# Altium footprint library Button_Switch_THT.PcbLib: 98 footprints (part 2 of 7)
Each footprint in its own frame and in the unit in brackets; x right, y up, seen from the top. Pads: shape width x height; smd on the part's side, far side on the other; paste and mask are expansions set on the pad; w line width, h text height; cw(c..) or ccw(c..) is an arc to the next point about the centre after c.
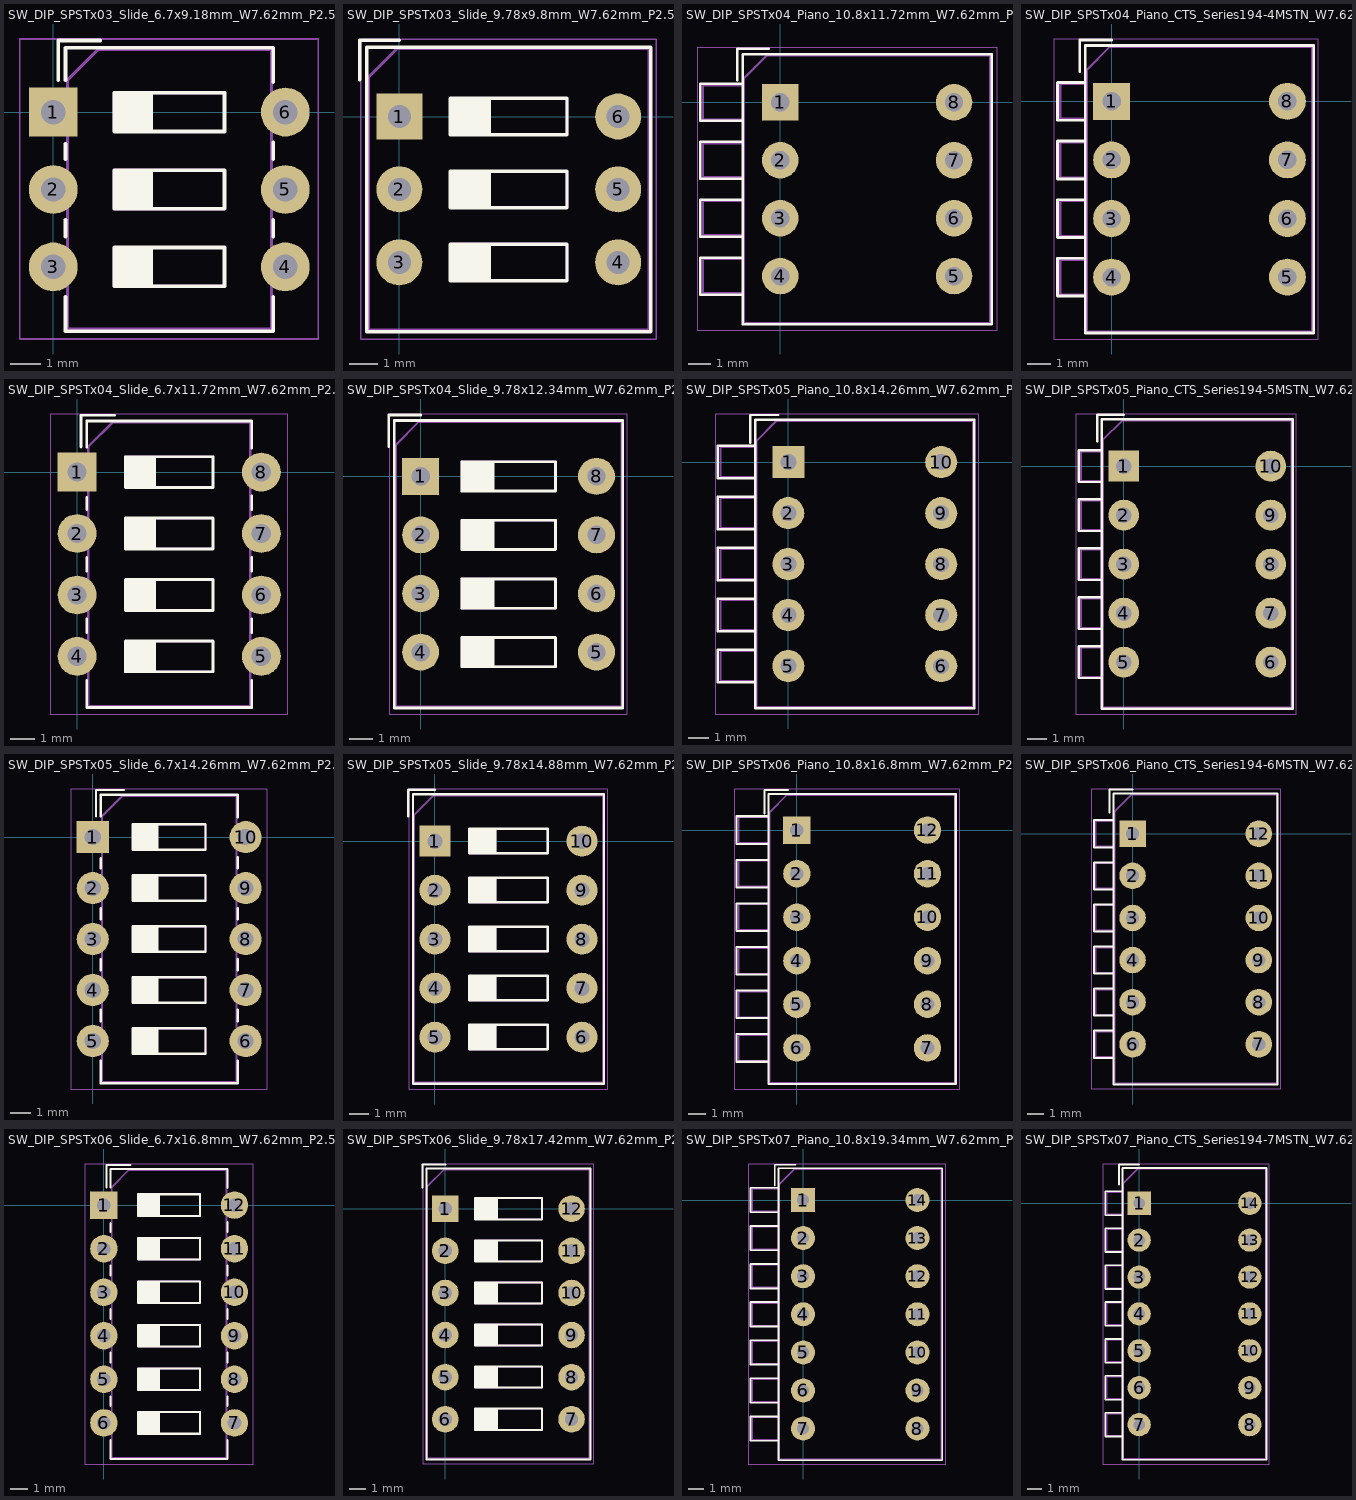
[diagram p1: the footprints below, top view; thin cyan lines are the x and y axes]

## SW_DIP_SPSTx03_Slide_6.7x9.18mm_W7.62mm_P2.54mm_LowProfile [mm]
pads (6):
  rect 1.6x1.6 hole 0.8: 1(0,0)
  rrect100% 1.6x1.6 hole 0.8: 2(0,-2.54) 3(0,-5.08) 4(7.62,-5.08) 5(7.62,-2.54) 6(7.62,0)
F.SilkS:
  lines w0.12: 0.16,1.04 0.16,2.35 1.543,2.35 ; 0.4,-6.07 0.4,-7.19 7.221,-7.19 7.221,-6.07 ; 0.4,-4.091 0.4,-3.53 ; 0.4,-1.551 0.4,-1.04 ; 0.4,1.04 0.4,2.11 7.221,2.11 7.221,0.99 ; 2,-5.645 3.207,-5.645 ; 2,-5.525 3.207,-5.525 ; 2,-5.405 3.207,-5.405 ; 2,-5.285 3.207,-5.285 ; 2,-5.165 3.207,-5.165 ; 2,-5.045 3.207,-5.045 ; 2,-4.925 3.207,-4.925 ; 2,-4.805 3.207,-4.805 ; 2,-4.685 3.207,-4.685 ; 2,-4.565 3.207,-4.565 ; 2,-3.105 3.207,-3.105 ; 2,-2.985 3.207,-2.985 ; 2,-2.865 3.207,-2.865 ; 2,-2.745 3.207,-2.745 ; 2,-2.625 3.207,-2.625 ; 2,-2.505 3.207,-2.505 ; 2,-2.385 3.207,-2.385 ; 2,-2.265 3.207,-2.265 ; 2,-2.145 3.207,-2.145 ; 2,-2.025 3.207,-2.025 ; 2,-0.565 3.207,-0.565 ; 2,-0.445 3.207,-0.445 ; 2,-0.325 3.207,-0.325 ; 2,-0.205 3.207,-0.205 ; 2,-0.085 3.207,-0.085 ; 2,0.035 3.207,0.035 ; 2,0.155 3.207,0.155 ; 2,0.275 3.207,0.275 ; 2,0.395 3.207,0.395 ; 2,0.515 3.207,0.515 ; 3.207,-5.715 3.207,-4.445 ; 3.207,-3.175 3.207,-1.905 ; 3.207,-0.635 3.207,0.635 ; 7.221,-4.091 7.221,-3.53 ; 7.221,-1.551 7.221,-0.99 ; 2,-5.715 5.62,-5.715 5.62,-4.445 2,-4.445 2,-5.715 ; 2,-3.175 5.62,-3.175 5.62,-1.905 2,-1.905 2,-3.175 ; 2,-0.635 5.62,-0.635 5.62,0.635 2,0.635 2,-0.635
F.CrtYd:
  lines w0.05: -1.1,-7.45 8.7,-7.45 8.7,2.4 -1.1,2.4 -1.1,-7.45
F.Fab:
  lines w0.1: 2,-5.645 3.207,-5.645 ; 2,-5.545 3.207,-5.545 ; 2,-5.445 3.207,-5.445 ; 2,-5.345 3.207,-5.345 ; 2,-5.245 3.207,-5.245 ; 2,-5.145 3.207,-5.145 ; 2,-5.045 3.207,-5.045 ; 2,-4.945 3.207,-4.945 ; 2,-4.845 3.207,-4.845 ; 2,-4.745 3.207,-4.745 ; 2,-4.645 3.207,-4.645 ; 2,-4.545 3.207,-4.545 ; 2,-3.105 3.207,-3.105 ; 2,-3.005 3.207,-3.005 ; 2,-2.905 3.207,-2.905 ; 2,-2.805 3.207,-2.805 ; 2,-2.705 3.207,-2.705 ; 2,-2.605 3.207,-2.605 ; 2,-2.505 3.207,-2.505 ; 2,-2.405 3.207,-2.405 ; 2,-2.305 3.207,-2.305 ; 2,-2.205 3.207,-2.205 ; 2,-2.105 3.207,-2.105 ; 2,-2.005 3.207,-2.005 ; 2,-0.565 3.207,-0.565 ; 2,-0.465 3.207,-0.465 ; 2,-0.365 3.207,-0.365 ; 2,-0.265 3.207,-0.265 ; 2,-0.165 3.207,-0.165 ; 2,-0.065 3.207,-0.065 ; 2,0.035 3.207,0.035 ; 2,0.135 3.207,0.135 ; 2,0.235 3.207,0.235 ; 2,0.335 3.207,0.335 ; 2,0.435 3.207,0.435 ; 2,0.535 3.207,0.535 ; 3.207,-5.715 3.207,-4.445 ; 3.207,-3.175 3.207,-1.905 ; 3.207,-0.635 3.207,0.635 ; 0.46,-7.13 0.46,1.05 1.46,2.05 7.16,2.05 7.16,-7.13 0.46,-7.13 ; 2,-5.715 5.62,-5.715 5.62,-4.445 2,-4.445 2,-5.715 ; 2,-3.175 2,-1.905 5.62,-1.905 5.62,-3.175 2,-3.175 ; 2,-0.635 2,0.635 5.62,0.635 5.62,-0.635 2,-0.635
  text "on" at 3.82,0.956 h0.8
  text "'.Designator'" at 7.062,-5.777 h0.8

## SW_DIP_SPSTx03_Slide_9.78x9.8mm_W7.62mm_P2.54mm [mm]
pads (6):
  rect 1.6x1.6 hole 0.8: 1(0,0)
  rrect100% 1.6x1.6 hole 0.8: 2(0,-2.54) 3(0,-5.08) 4(7.62,-5.08) 5(7.62,-2.54) 6(7.62,0)
F.SilkS:
  lines w0.12: -1.38,1.277 -1.38,2.66 0.004,2.66 ; 1.78,-5.645 3.133,-5.645 ; 1.78,-5.525 3.133,-5.525 ; 1.78,-5.405 3.133,-5.405 ; 1.78,-5.285 3.133,-5.285 ; 1.78,-5.165 3.133,-5.165 ; 1.78,-5.045 3.133,-5.045 ; 1.78,-4.925 3.133,-4.925 ; 1.78,-4.805 3.133,-4.805 ; 1.78,-4.685 3.133,-4.685 ; 1.78,-4.565 3.133,-4.565 ; 1.78,-3.105 3.133,-3.105 ; 1.78,-2.985 3.133,-2.985 ; 1.78,-2.865 3.133,-2.865 ; 1.78,-2.745 3.133,-2.745 ; 1.78,-2.625 3.133,-2.625 ; 1.78,-2.505 3.133,-2.505 ; 1.78,-2.385 3.133,-2.385 ; 1.78,-2.265 3.133,-2.265 ; 1.78,-2.145 3.133,-2.145 ; 1.78,-2.025 3.133,-2.025 ; 1.78,-0.565 3.133,-0.565 ; 1.78,-0.445 3.133,-0.445 ; 1.78,-0.325 3.133,-0.325 ; 1.78,-0.205 3.133,-0.205 ; 1.78,-0.085 3.133,-0.085 ; 1.78,0.035 3.133,0.035 ; 1.78,0.155 3.133,0.155 ; 1.78,0.275 3.133,0.275 ; 1.78,0.395 3.133,0.395 ; 1.78,0.515 3.133,0.515 ; 3.133,-5.715 3.133,-4.445 ; 3.133,-3.175 3.133,-1.905 ; 3.133,-0.635 3.133,0.635 ; -1.14,-7.5 -1.14,2.42 8.76,2.42 8.76,-7.5 -1.14,-7.5 ; 1.78,-5.715 1.78,-4.445 5.84,-4.445 5.84,-5.715 1.78,-5.715 ; 1.78,-3.175 5.84,-3.175 5.84,-1.905 1.78,-1.905 1.78,-3.175 ; 1.78,-0.635 1.78,0.635 5.84,0.635 5.84,-0.635 1.78,-0.635
F.CrtYd:
  lines w0.05: -1.35,-7.75 8.95,-7.75 8.95,2.7 -1.35,2.7 -1.35,-7.75
F.Fab:
  lines w0.1: 1.78,-5.645 3.133,-5.645 ; 1.78,-5.545 3.133,-5.545 ; 1.78,-5.445 3.133,-5.445 ; 1.78,-5.345 3.133,-5.345 ; 1.78,-5.245 3.133,-5.245 ; 1.78,-5.145 3.133,-5.145 ; 1.78,-5.045 3.133,-5.045 ; 1.78,-4.945 3.133,-4.945 ; 1.78,-4.845 3.133,-4.845 ; 1.78,-4.745 3.133,-4.745 ; 1.78,-4.645 3.133,-4.645 ; 1.78,-4.545 3.133,-4.545 ; 1.78,-3.105 3.133,-3.105 ; 1.78,-3.005 3.133,-3.005 ; 1.78,-2.905 3.133,-2.905 ; 1.78,-2.805 3.133,-2.805 ; 1.78,-2.705 3.133,-2.705 ; 1.78,-2.605 3.133,-2.605 ; 1.78,-2.505 3.133,-2.505 ; 1.78,-2.405 3.133,-2.405 ; 1.78,-2.305 3.133,-2.305 ; 1.78,-2.205 3.133,-2.205 ; 1.78,-2.105 3.133,-2.105 ; 1.78,-2.005 3.133,-2.005 ; 1.78,-0.565 3.133,-0.565 ; 1.78,-0.465 3.133,-0.465 ; 1.78,-0.365 3.133,-0.365 ; 1.78,-0.265 3.133,-0.265 ; 1.78,-0.165 3.133,-0.165 ; 1.78,-0.065 3.133,-0.065 ; 1.78,0.035 3.133,0.035 ; 1.78,0.135 3.133,0.135 ; 1.78,0.235 3.133,0.235 ; 1.78,0.335 3.133,0.335 ; 1.78,0.435 3.133,0.435 ; 1.78,0.535 3.133,0.535 ; 3.133,-5.715 3.133,-4.445 ; 3.133,-3.175 3.133,-1.905 ; 3.133,-0.635 3.133,0.635 ; -1.08,-7.44 8.7,-7.44 8.7,2.36 -0.08,2.36 -1.08,1.36 -1.08,-7.44 ; 1.78,-5.715 5.84,-5.715 5.84,-4.445 1.78,-4.445 1.78,-5.715 ; 1.78,-3.175 1.78,-1.905 5.84,-1.905 5.84,-3.175 1.78,-3.175 ; 1.78,-0.635 1.78,0.635 5.84,0.635 5.84,-0.635 1.78,-0.635
  text "on" at 4.7,1.111 h0.8
  text "'.Designator'" at 7.942,-5.777 h0.8

## SW_DIP_SPSTx04_Piano_10.8x11.72mm_W7.62mm_P2.54mm [mm]
pads (8):
  rect 1.6x1.6 hole 0.8: 1(0,0)
  rrect100% 1.6x1.6 hole 0.8: 2(0,-2.54) 3(0,-5.08) 4(0,-7.62) 5(7.62,-7.62) 6(7.62,-5.08) 7(7.62,-2.54) 8(7.62,0)
F.SilkS:
  lines w0.12: -1.89,0.967 -1.89,2.35 -0.507,2.35 ; -3.51,-8.43 -1.65,-8.43 -1.65,-6.81 -3.51,-6.81 -3.51,-8.43 ; -3.51,-5.89 -3.51,-4.27 -1.65,-4.27 -1.65,-5.89 -3.51,-5.89 ; -3.51,-3.35 -3.51,-1.73 -1.65,-1.73 -1.65,-3.35 -3.51,-3.35 ; -3.51,-0.81 -1.65,-0.81 -1.65,0.81 -3.51,0.81 -3.51,-0.81 ; -1.65,-9.73 9.27,-9.73 9.27,2.11 -1.65,2.11 -1.65,-9.73
F.CrtYd:
  lines w0.05: -3.65,-10 -3.65,2.4 9.5,2.4 9.5,-10 -3.65,-10
F.Fab:
  lines w0.1: -3.39,-8.37 -3.39,-6.87 -1.59,-6.87 -1.59,-8.37 -3.39,-8.37 ; -3.39,-5.83 -3.39,-4.33 -1.59,-4.33 -1.59,-5.83 -3.39,-5.83 ; -3.39,-3.29 -3.39,-1.79 -1.59,-1.79 -1.59,-3.29 -3.39,-3.29 ; -3.39,-0.75 -3.39,0.75 -1.59,0.75 -1.59,-0.75 -3.39,-0.75 ; -1.59,-9.67 9.21,-9.67 9.21,2.05 -0.59,2.05 -1.59,1.05 -1.59,-9.67
  text "'.Designator'" at 0.573,-4.482 h0.8

## SW_DIP_SPSTx04_Piano_CTS_Series194-4MSTN_W7.62mm_P2.54mm [mm]
pads (8):
  rect 1.6x1.6 hole 0.8: 1(0,0)
  rrect100% 1.6x1.6 hole 0.8: 2(0,-2.54) 3(0,-5.08) 4(0,-7.62) 5(7.62,-7.62) 6(7.62,-5.08) 7(7.62,-2.54) 8(7.62,0)
F.SilkS:
  lines w0.12: -1.38,1.277 -1.38,2.66 0.004,2.66 ; -2.34,-8.441 -1.14,-8.441 -1.14,-6.801 -2.34,-6.801 -2.34,-8.441 ; -2.34,-5.9 -1.14,-5.9 -1.14,-4.261 -2.34,-4.261 -2.34,-5.9 ; -2.34,-3.361 -1.14,-3.361 -1.14,-1.72 -2.34,-1.72 -2.34,-3.361 ; -2.34,-0.82 -2.34,0.82 -1.14,0.82 -1.14,-0.82 -2.34,-0.82 ; -1.14,-10.04 -1.14,2.42 8.76,2.42 8.76,-10.04 -1.14,-10.04
F.CrtYd:
  lines w0.05: -2.5,-10.3 -2.5,2.7 8.95,2.7 8.95,-10.3 -2.5,-10.3
F.Fab:
  lines w0.1: -2.22,-8.38 -1.08,-8.38 -1.08,-6.86 -2.22,-6.86 -2.22,-8.38 ; -2.22,-5.84 -1.08,-5.84 -1.08,-4.32 -2.22,-4.32 -2.22,-5.84 ; -2.22,-3.3 -1.08,-3.3 -1.08,-1.78 -2.22,-1.78 -2.22,-3.3 ; -2.22,-0.76 -1.08,-0.76 -1.08,0.76 -2.22,0.76 -2.22,-0.76 ; -1.08,-9.98 8.7,-9.98 8.7,2.36 -0.08,2.36 -1.08,1.36 -1.08,-9.98
  text "'.Designator'" at 0.573,-4.482 h0.8

## SW_DIP_SPSTx04_Slide_6.7x11.72mm_W7.62mm_P2.54mm_LowProfile [mm]
pads (8):
  rect 1.6x1.6 hole 0.8: 1(0,0)
  rrect100% 1.6x1.6 hole 0.8: 2(0,-2.54) 3(0,-5.08) 4(0,-7.62) 5(7.62,-7.62) 6(7.62,-5.08) 7(7.62,-2.54) 8(7.62,0)
F.SilkS:
  lines w0.12: 0.16,1.04 0.16,2.35 1.543,2.35 ; 0.4,-8.61 0.4,-9.73 7.221,-9.73 7.221,-8.61 ; 0.4,-6.631 0.4,-6.07 ; 0.4,-4.091 0.4,-3.53 ; 0.4,-1.551 0.4,-1.04 ; 0.4,1.04 0.4,2.11 7.221,2.11 7.221,0.99 ; 2,-8.185 3.207,-8.185 ; 2,-8.065 3.207,-8.065 ; 2,-7.945 3.207,-7.945 ; 2,-7.825 3.207,-7.825 ; 2,-7.705 3.207,-7.705 ; 2,-7.585 3.207,-7.585 ; 2,-7.465 3.207,-7.465 ; 2,-7.345 3.207,-7.345 ; 2,-7.225 3.207,-7.225 ; 2,-7.105 3.207,-7.105 ; 2,-5.645 3.207,-5.645 ; 2,-5.525 3.207,-5.525 ; 2,-5.405 3.207,-5.405 ; 2,-5.285 3.207,-5.285 ; 2,-5.165 3.207,-5.165 ; 2,-5.045 3.207,-5.045 ; 2,-4.925 3.207,-4.925 ; 2,-4.805 3.207,-4.805 ; 2,-4.685 3.207,-4.685 ; 2,-4.565 3.207,-4.565 ; 2,-3.105 3.207,-3.105 ; 2,-2.985 3.207,-2.985 ; 2,-2.865 3.207,-2.865 ; 2,-2.745 3.207,-2.745 ; 2,-2.625 3.207,-2.625 ; 2,-2.505 3.207,-2.505 ; 2,-2.385 3.207,-2.385 ; 2,-2.265 3.207,-2.265 ; 2,-2.145 3.207,-2.145 ; 2,-2.025 3.207,-2.025 ; 2,-0.565 3.207,-0.565 ; 2,-0.445 3.207,-0.445 ; 2,-0.325 3.207,-0.325 ; 2,-0.205 3.207,-0.205 ; 2,-0.085 3.207,-0.085 ; 2,0.035 3.207,0.035 ; 2,0.155 3.207,0.155 ; 2,0.275 3.207,0.275 ; 2,0.395 3.207,0.395 ; 2,0.515 3.207,0.515 ; 3.207,-8.255 3.207,-6.985 ; 3.207,-5.715 3.207,-4.445 ; 3.207,-3.175 3.207,-1.905 ; 3.207,-0.635 3.207,0.635 ; 7.221,-6.631 7.221,-6.07 ; 7.221,-4.091 7.221,-3.53 ; 7.221,-1.551 7.221,-0.99 ; 2,-8.255 5.62,-8.255 5.62,-6.985 2,-6.985 2,-8.255 ; 2,-5.715 2,-4.445 5.62,-4.445 5.62,-5.715 2,-5.715 ; 2,-3.175 2,-1.905 5.62,-1.905 5.62,-3.175 2,-3.175 ; 2,-0.635 2,0.635 5.62,0.635 5.62,-0.635 2,-0.635
F.CrtYd:
  lines w0.05: -1.1,-10 -1.1,2.4 8.7,2.4 8.7,-10 -1.1,-10
F.Fab:
  lines w0.1: 2,-8.185 3.207,-8.185 ; 2,-8.085 3.207,-8.085 ; 2,-7.985 3.207,-7.985 ; 2,-7.885 3.207,-7.885 ; 2,-7.785 3.207,-7.785 ; 2,-7.685 3.207,-7.685 ; 2,-7.585 3.207,-7.585 ; 2,-7.485 3.207,-7.485 ; 2,-7.385 3.207,-7.385 ; 2,-7.285 3.207,-7.285 ; 2,-7.185 3.207,-7.185 ; 2,-7.085 3.207,-7.085 ; 2,-5.645 3.207,-5.645 ; 2,-5.545 3.207,-5.545 ; 2,-5.445 3.207,-5.445 ; 2,-5.345 3.207,-5.345 ; 2,-5.245 3.207,-5.245 ; 2,-5.145 3.207,-5.145 ; 2,-5.045 3.207,-5.045 ; 2,-4.945 3.207,-4.945 ; 2,-4.845 3.207,-4.845 ; 2,-4.745 3.207,-4.745 ; 2,-4.645 3.207,-4.645 ; 2,-4.545 3.207,-4.545 ; 2,-3.105 3.207,-3.105 ; 2,-3.005 3.207,-3.005 ; 2,-2.905 3.207,-2.905 ; 2,-2.805 3.207,-2.805 ; 2,-2.705 3.207,-2.705 ; 2,-2.605 3.207,-2.605 ; 2,-2.505 3.207,-2.505 ; 2,-2.405 3.207,-2.405 ; 2,-2.305 3.207,-2.305 ; 2,-2.205 3.207,-2.205 ; 2,-2.105 3.207,-2.105 ; 2,-2.005 3.207,-2.005 ; 2,-0.565 3.207,-0.565 ; 2,-0.465 3.207,-0.465 ; 2,-0.365 3.207,-0.365 ; 2,-0.265 3.207,-0.265 ; 2,-0.165 3.207,-0.165 ; 2,-0.065 3.207,-0.065 ; 2,0.035 3.207,0.035 ; 2,0.135 3.207,0.135 ; 2,0.235 3.207,0.235 ; 2,0.335 3.207,0.335 ; 2,0.435 3.207,0.435 ; 2,0.535 3.207,0.535 ; 3.207,-8.255 3.207,-6.985 ; 3.207,-5.715 3.207,-4.445 ; 3.207,-3.175 3.207,-1.905 ; 3.207,-0.635 3.207,0.635 ; 0.46,-9.67 0.46,1.05 1.46,2.05 7.16,2.05 7.16,-9.67 0.46,-9.67 ; 2,-8.255 5.62,-8.255 5.62,-6.985 2,-6.985 2,-8.255 ; 2,-5.715 5.62,-5.715 5.62,-4.445 2,-4.445 2,-5.715 ; 2,-3.175 2,-1.905 5.62,-1.905 5.62,-3.175 2,-3.175 ; 2,-0.635 2,0.635 5.62,0.635 5.62,-0.635 2,-0.635
  text "on" at 3.82,0.956 h0.8
  text "'.Designator'" at 7.062,-7.047 h0.8

## SW_DIP_SPSTx04_Slide_9.78x12.34mm_W7.62mm_P2.54mm [mm]
pads (8):
  rect 1.6x1.6 hole 0.8: 1(0,0)
  rrect100% 1.6x1.6 hole 0.8: 2(0,-2.54) 3(0,-5.08) 4(0,-7.62) 5(7.62,-7.62) 6(7.62,-5.08) 7(7.62,-2.54) 8(7.62,0)
F.SilkS:
  lines w0.12: -1.38,1.277 -1.38,2.66 0.004,2.66 ; 1.78,-8.185 3.133,-8.185 ; 1.78,-8.065 3.133,-8.065 ; 1.78,-7.945 3.133,-7.945 ; 1.78,-7.825 3.133,-7.825 ; 1.78,-7.705 3.133,-7.705 ; 1.78,-7.585 3.133,-7.585 ; 1.78,-7.465 3.133,-7.465 ; 1.78,-7.345 3.133,-7.345 ; 1.78,-7.225 3.133,-7.225 ; 1.78,-7.105 3.133,-7.105 ; 1.78,-5.645 3.133,-5.645 ; 1.78,-5.525 3.133,-5.525 ; 1.78,-5.405 3.133,-5.405 ; 1.78,-5.285 3.133,-5.285 ; 1.78,-5.165 3.133,-5.165 ; 1.78,-5.045 3.133,-5.045 ; 1.78,-4.925 3.133,-4.925 ; 1.78,-4.805 3.133,-4.805 ; 1.78,-4.685 3.133,-4.685 ; 1.78,-4.565 3.133,-4.565 ; 1.78,-3.105 3.133,-3.105 ; 1.78,-2.985 3.133,-2.985 ; 1.78,-2.865 3.133,-2.865 ; 1.78,-2.745 3.133,-2.745 ; 1.78,-2.625 3.133,-2.625 ; 1.78,-2.505 3.133,-2.505 ; 1.78,-2.385 3.133,-2.385 ; 1.78,-2.265 3.133,-2.265 ; 1.78,-2.145 3.133,-2.145 ; 1.78,-2.025 3.133,-2.025 ; 1.78,-0.565 3.133,-0.565 ; 1.78,-0.445 3.133,-0.445 ; 1.78,-0.325 3.133,-0.325 ; 1.78,-0.205 3.133,-0.205 ; 1.78,-0.085 3.133,-0.085 ; 1.78,0.035 3.133,0.035 ; 1.78,0.155 3.133,0.155 ; 1.78,0.275 3.133,0.275 ; 1.78,0.395 3.133,0.395 ; 1.78,0.515 3.133,0.515 ; 3.133,-8.255 3.133,-6.985 ; 3.133,-5.715 3.133,-4.445 ; 3.133,-3.175 3.133,-1.905 ; 3.133,-0.635 3.133,0.635 ; -1.14,-10.04 8.76,-10.04 8.76,2.42 -1.14,2.42 -1.14,-10.04 ; 1.78,-8.255 5.84,-8.255 5.84,-6.985 1.78,-6.985 1.78,-8.255 ; 1.78,-5.715 5.84,-5.715 5.84,-4.445 1.78,-4.445 1.78,-5.715 ; 1.78,-3.175 5.84,-3.175 5.84,-1.905 1.78,-1.905 1.78,-3.175 ; 1.78,-0.635 5.84,-0.635 5.84,0.635 1.78,0.635 1.78,-0.635
F.CrtYd:
  lines w0.05: -1.35,-10.3 -1.35,2.7 8.95,2.7 8.95,-10.3 -1.35,-10.3
F.Fab:
  lines w0.1: 1.78,-8.185 3.133,-8.185 ; 1.78,-8.085 3.133,-8.085 ; 1.78,-7.985 3.133,-7.985 ; 1.78,-7.885 3.133,-7.885 ; 1.78,-7.785 3.133,-7.785 ; 1.78,-7.685 3.133,-7.685 ; 1.78,-7.585 3.133,-7.585 ; 1.78,-7.485 3.133,-7.485 ; 1.78,-7.385 3.133,-7.385 ; 1.78,-7.285 3.133,-7.285 ; 1.78,-7.185 3.133,-7.185 ; 1.78,-7.085 3.133,-7.085 ; 1.78,-5.645 3.133,-5.645 ; 1.78,-5.545 3.133,-5.545 ; 1.78,-5.445 3.133,-5.445 ; 1.78,-5.345 3.133,-5.345 ; 1.78,-5.245 3.133,-5.245 ; 1.78,-5.145 3.133,-5.145 ; 1.78,-5.045 3.133,-5.045 ; 1.78,-4.945 3.133,-4.945 ; 1.78,-4.845 3.133,-4.845 ; 1.78,-4.745 3.133,-4.745 ; 1.78,-4.645 3.133,-4.645 ; 1.78,-4.545 3.133,-4.545 ; 1.78,-3.105 3.133,-3.105 ; 1.78,-3.005 3.133,-3.005 ; 1.78,-2.905 3.133,-2.905 ; 1.78,-2.805 3.133,-2.805 ; 1.78,-2.705 3.133,-2.705 ; 1.78,-2.605 3.133,-2.605 ; 1.78,-2.505 3.133,-2.505 ; 1.78,-2.405 3.133,-2.405 ; 1.78,-2.305 3.133,-2.305 ; 1.78,-2.205 3.133,-2.205 ; 1.78,-2.105 3.133,-2.105 ; 1.78,-2.005 3.133,-2.005 ; 1.78,-0.565 3.133,-0.565 ; 1.78,-0.465 3.133,-0.465 ; 1.78,-0.365 3.133,-0.365 ; 1.78,-0.265 3.133,-0.265 ; 1.78,-0.165 3.133,-0.165 ; 1.78,-0.065 3.133,-0.065 ; 1.78,0.035 3.133,0.035 ; 1.78,0.135 3.133,0.135 ; 1.78,0.235 3.133,0.235 ; 1.78,0.335 3.133,0.335 ; 1.78,0.435 3.133,0.435 ; 1.78,0.535 3.133,0.535 ; 3.133,-8.255 3.133,-6.985 ; 3.133,-5.715 3.133,-4.445 ; 3.133,-3.175 3.133,-1.905 ; 3.133,-0.635 3.133,0.635 ; -1.08,-9.98 -1.08,1.36 -0.08,2.36 8.7,2.36 8.7,-9.98 -1.08,-9.98 ; 1.78,-8.255 1.78,-6.985 5.84,-6.985 5.84,-8.255 1.78,-8.255 ; 1.78,-5.715 1.78,-4.445 5.84,-4.445 5.84,-5.715 1.78,-5.715 ; 1.78,-3.175 5.84,-3.175 5.84,-1.905 1.78,-1.905 1.78,-3.175 ; 1.78,-0.635 1.78,0.635 5.84,0.635 5.84,-0.635 1.78,-0.635
  text "'.Designator'" at 7.942,-7.047 h0.8
  text "on" at 4.7,1.111 h0.8

## SW_DIP_SPSTx05_Piano_10.8x14.26mm_W7.62mm_P2.54mm [mm]
pads (10):
  rect 1.6x1.6 hole 0.8: 1(0,0)
  rrect100% 1.6x1.6 hole 0.8: 2(0,-2.54) 3(0,-5.08) 4(0,-7.62) 5(0,-10.16) 6(7.62,-10.16) 7(7.62,-7.62) 8(7.62,-5.08) 9(7.62,-2.54) 10(7.62,0)
F.SilkS:
  lines w0.12: -1.89,0.967 -1.89,2.35 -0.507,2.35 ; -3.51,-10.97 -1.65,-10.97 -1.65,-9.35 -3.51,-9.35 -3.51,-10.97 ; -3.51,-8.43 -1.65,-8.43 -1.65,-6.81 -3.51,-6.81 -3.51,-8.43 ; -3.51,-5.89 -3.51,-4.27 -1.65,-4.27 -1.65,-5.89 -3.51,-5.89 ; -3.51,-3.35 -1.65,-3.35 -1.65,-1.73 -3.51,-1.73 -3.51,-3.35 ; -3.51,-0.81 -1.65,-0.81 -1.65,0.81 -3.51,0.81 -3.51,-0.81 ; -1.65,-12.271 9.27,-12.271 9.27,2.11 -1.65,2.11 -1.65,-12.271
F.CrtYd:
  lines w0.05: -3.65,-12.55 9.5,-12.55 9.5,2.4 -3.65,2.4 -3.65,-12.55
F.Fab:
  lines w0.1: -3.39,-10.91 -1.59,-10.91 -1.59,-9.41 -3.39,-9.41 -3.39,-10.91 ; -3.39,-8.37 -3.39,-6.87 -1.59,-6.87 -1.59,-8.37 -3.39,-8.37 ; -3.39,-5.83 -1.59,-5.83 -1.59,-4.33 -3.39,-4.33 -3.39,-5.83 ; -3.39,-3.29 -1.59,-3.29 -1.59,-1.79 -3.39,-1.79 -3.39,-3.29 ; -3.39,-0.75 -1.59,-0.75 -1.59,0.75 -3.39,0.75 -3.39,-0.75 ; -1.59,-12.21 -1.59,1.05 -0.59,2.05 9.21,2.05 9.21,-12.21 -1.59,-12.21
  text "'.Designator'" at 0.573,-5.752 h0.8

## SW_DIP_SPSTx05_Piano_CTS_Series194-5MSTN_W7.62mm_P2.54mm [mm]
pads (10):
  rect 1.6x1.6 hole 0.8: 1(0,0)
  rrect100% 1.6x1.6 hole 0.8: 2(0,-2.54) 3(0,-5.08) 4(0,-7.62) 5(0,-10.16) 6(7.62,-10.16) 7(7.62,-7.62) 8(7.62,-5.08) 9(7.62,-2.54) 10(7.62,0)
F.SilkS:
  lines w0.12: -1.38,1.277 -1.38,2.66 0.004,2.66 ; -2.34,-10.98 -1.14,-10.98 -1.14,-9.34 -2.34,-9.34 -2.34,-10.98 ; -2.34,-8.441 -1.14,-8.441 -1.14,-6.801 -2.34,-6.801 -2.34,-8.441 ; -2.34,-5.9 -2.34,-4.261 -1.14,-4.261 -1.14,-5.9 -2.34,-5.9 ; -2.34,-3.361 -2.34,-1.72 -1.14,-1.72 -1.14,-3.361 -2.34,-3.361 ; -2.34,-0.82 -2.34,0.82 -1.14,0.82 -1.14,-0.82 -2.34,-0.82 ; -1.14,-12.58 8.76,-12.58 8.76,2.42 -1.14,2.42 -1.14,-12.58
F.CrtYd:
  lines w0.05: -2.5,-12.85 8.95,-12.85 8.95,2.7 -2.5,2.7 -2.5,-12.85
F.Fab:
  lines w0.1: -2.22,-10.92 -1.08,-10.92 -1.08,-9.4 -2.22,-9.4 -2.22,-10.92 ; -2.22,-8.38 -1.08,-8.38 -1.08,-6.86 -2.22,-6.86 -2.22,-8.38 ; -2.22,-5.84 -1.08,-5.84 -1.08,-4.32 -2.22,-4.32 -2.22,-5.84 ; -2.22,-3.3 -2.22,-1.78 -1.08,-1.78 -1.08,-3.3 -2.22,-3.3 ; -2.22,-0.76 -2.22,0.76 -1.08,0.76 -1.08,-0.76 -2.22,-0.76 ; -1.08,-12.52 -1.08,1.36 -0.08,2.36 8.7,2.36 8.7,-12.52 -1.08,-12.52
  text "'.Designator'" at 0.573,-5.752 h0.8

## SW_DIP_SPSTx05_Slide_6.7x14.26mm_W7.62mm_P2.54mm_LowProfile [mm]
pads (10):
  rect 1.6x1.6 hole 0.8: 1(0,0)
  rrect100% 1.6x1.6 hole 0.8: 2(0,-2.54) 3(0,-5.08) 4(0,-7.62) 5(0,-10.16) 6(7.62,-10.16) 7(7.62,-7.62) 8(7.62,-5.08) 9(7.62,-2.54) 10(7.62,0)
F.SilkS:
  lines w0.12: 0.16,1.04 0.16,2.35 1.543,2.35 ; 0.4,-11.15 0.4,-12.271 7.221,-12.271 7.221,-11.15 ; 0.4,-9.17 0.4,-8.61 ; 0.4,-6.631 0.4,-6.07 ; 0.4,-4.091 0.4,-3.53 ; 0.4,-1.551 0.4,-1.04 ; 0.4,1.04 0.4,2.11 7.221,2.11 7.221,0.99 ; 2,-10.725 3.207,-10.725 ; 2,-10.605 3.207,-10.605 ; 2,-10.485 3.207,-10.485 ; 2,-10.365 3.207,-10.365 ; 2,-10.245 3.207,-10.245 ; 2,-10.125 3.207,-10.125 ; 2,-10.005 3.207,-10.005 ; 2,-9.885 3.207,-9.885 ; 2,-9.765 3.207,-9.765 ; 2,-9.645 3.207,-9.645 ; 2,-8.185 3.207,-8.185 ; 2,-8.065 3.207,-8.065 ; 2,-7.945 3.207,-7.945 ; 2,-7.825 3.207,-7.825 ; 2,-7.705 3.207,-7.705 ; 2,-7.585 3.207,-7.585 ; 2,-7.465 3.207,-7.465 ; 2,-7.345 3.207,-7.345 ; 2,-7.225 3.207,-7.225 ; 2,-7.105 3.207,-7.105 ; 2,-5.645 3.207,-5.645 ; 2,-5.525 3.207,-5.525 ; 2,-5.405 3.207,-5.405 ; 2,-5.285 3.207,-5.285 ; 2,-5.165 3.207,-5.165 ; 2,-5.045 3.207,-5.045 ; 2,-4.925 3.207,-4.925 ; 2,-4.805 3.207,-4.805 ; 2,-4.685 3.207,-4.685 ; 2,-4.565 3.207,-4.565 ; 2,-3.105 3.207,-3.105 ; 2,-2.985 3.207,-2.985 ; 2,-2.865 3.207,-2.865 ; 2,-2.745 3.207,-2.745 ; 2,-2.625 3.207,-2.625 ; 2,-2.505 3.207,-2.505 ; 2,-2.385 3.207,-2.385 ; 2,-2.265 3.207,-2.265 ; 2,-2.145 3.207,-2.145 ; 2,-2.025 3.207,-2.025 ; 2,-0.565 3.207,-0.565 ; 2,-0.445 3.207,-0.445 ; 2,-0.325 3.207,-0.325 ; 2,-0.205 3.207,-0.205 ; 2,-0.085 3.207,-0.085 ; 2,0.035 3.207,0.035 ; 2,0.155 3.207,0.155 ; 2,0.275 3.207,0.275 ; 2,0.395 3.207,0.395 ; 2,0.515 3.207,0.515 ; 3.207,-10.795 3.207,-9.525 ; 3.207,-8.255 3.207,-6.985 ; 3.207,-5.715 3.207,-4.445 ; 3.207,-3.175 3.207,-1.905 ; 3.207,-0.635 3.207,0.635 ; 7.221,-9.17 7.221,-8.61 ; 7.221,-6.631 7.221,-6.07 ; 7.221,-4.091 7.221,-3.53 ; 7.221,-1.551 7.221,-0.99 ; 2,-10.795 5.62,-10.795 5.62,-9.525 2,-9.525 2,-10.795 ; 2,-8.255 2,-6.985 5.62,-6.985 5.62,-8.255 2,-8.255 ; 2,-5.715 5.62,-5.715 5.62,-4.445 2,-4.445 2,-5.715 ; 2,-3.175 2,-1.905 5.62,-1.905 5.62,-3.175 2,-3.175 ; 2,-0.635 5.62,-0.635 5.62,0.635 2,0.635 2,-0.635
F.CrtYd:
  lines w0.05: -1.1,-12.55 8.7,-12.55 8.7,2.4 -1.1,2.4 -1.1,-12.55
F.Fab:
  lines w0.1: 2,-10.725 3.207,-10.725 ; 2,-10.625 3.207,-10.625 ; 2,-10.525 3.207,-10.525 ; 2,-10.425 3.207,-10.425 ; 2,-10.325 3.207,-10.325 ; 2,-10.225 3.207,-10.225 ; 2,-10.125 3.207,-10.125 ; 2,-10.025 3.207,-10.025 ; 2,-9.925 3.207,-9.925 ; 2,-9.825 3.207,-9.825 ; 2,-9.725 3.207,-9.725 ; 2,-9.625 3.207,-9.625 ; 2,-8.185 3.207,-8.185 ; 2,-8.085 3.207,-8.085 ; 2,-7.985 3.207,-7.985 ; 2,-7.885 3.207,-7.885 ; 2,-7.785 3.207,-7.785 ; 2,-7.685 3.207,-7.685 ; 2,-7.585 3.207,-7.585 ; 2,-7.485 3.207,-7.485 ; 2,-7.385 3.207,-7.385 ; 2,-7.285 3.207,-7.285 ; 2,-7.185 3.207,-7.185 ; 2,-7.085 3.207,-7.085 ; 2,-5.645 3.207,-5.645 ; 2,-5.545 3.207,-5.545 ; 2,-5.445 3.207,-5.445 ; 2,-5.345 3.207,-5.345 ; 2,-5.245 3.207,-5.245 ; 2,-5.145 3.207,-5.145 ; 2,-5.045 3.207,-5.045 ; 2,-4.945 3.207,-4.945 ; 2,-4.845 3.207,-4.845 ; 2,-4.745 3.207,-4.745 ; 2,-4.645 3.207,-4.645 ; 2,-4.545 3.207,-4.545 ; 2,-3.105 3.207,-3.105 ; 2,-3.005 3.207,-3.005 ; 2,-2.905 3.207,-2.905 ; 2,-2.805 3.207,-2.805 ; 2,-2.705 3.207,-2.705 ; 2,-2.605 3.207,-2.605 ; 2,-2.505 3.207,-2.505 ; 2,-2.405 3.207,-2.405 ; 2,-2.305 3.207,-2.305 ; 2,-2.205 3.207,-2.205 ; 2,-2.105 3.207,-2.105 ; 2,-2.005 3.207,-2.005 ; 2,-0.565 3.207,-0.565 ; 2,-0.465 3.207,-0.465 ; 2,-0.365 3.207,-0.365 ; 2,-0.265 3.207,-0.265 ; 2,-0.165 3.207,-0.165 ; 2,-0.065 3.207,-0.065 ; 2,0.035 3.207,0.035 ; 2,0.135 3.207,0.135 ; 2,0.235 3.207,0.235 ; 2,0.335 3.207,0.335 ; 2,0.435 3.207,0.435 ; 2,0.535 3.207,0.535 ; 3.207,-10.795 3.207,-9.525 ; 3.207,-8.255 3.207,-6.985 ; 3.207,-5.715 3.207,-4.445 ; 3.207,-3.175 3.207,-1.905 ; 3.207,-0.635 3.207,0.635 ; 0.46,-12.21 0.46,1.05 1.46,2.05 7.16,2.05 7.16,-12.21 0.46,-12.21 ; 2,-10.795 5.62,-10.795 5.62,-9.525 2,-9.525 2,-10.795 ; 2,-8.255 2,-6.985 5.62,-6.985 5.62,-8.255 2,-8.255 ; 2,-5.715 2,-4.445 5.62,-4.445 5.62,-5.715 2,-5.715 ; 2,-3.175 2,-1.905 5.62,-1.905 5.62,-3.175 2,-3.175 ; 2,-0.635 2,0.635 5.62,0.635 5.62,-0.635 2,-0.635
  text "'.Designator'" at 7.062,-8.317 h0.8
  text "on" at 3.82,0.956 h0.8

## SW_DIP_SPSTx05_Slide_9.78x14.88mm_W7.62mm_P2.54mm [mm]
pads (10):
  rect 1.6x1.6 hole 0.8: 1(0,0)
  rrect100% 1.6x1.6 hole 0.8: 2(0,-2.54) 3(0,-5.08) 4(0,-7.62) 5(0,-10.16) 6(7.62,-10.16) 7(7.62,-7.62) 8(7.62,-5.08) 9(7.62,-2.54) 10(7.62,0)
F.SilkS:
  lines w0.12: -1.38,1.277 -1.38,2.66 0.004,2.66 ; 1.78,-10.725 3.133,-10.725 ; 1.78,-10.605 3.133,-10.605 ; 1.78,-10.485 3.133,-10.485 ; 1.78,-10.365 3.133,-10.365 ; 1.78,-10.245 3.133,-10.245 ; 1.78,-10.125 3.133,-10.125 ; 1.78,-10.005 3.133,-10.005 ; 1.78,-9.885 3.133,-9.885 ; 1.78,-9.765 3.133,-9.765 ; 1.78,-9.645 3.133,-9.645 ; 1.78,-8.185 3.133,-8.185 ; 1.78,-8.065 3.133,-8.065 ; 1.78,-7.945 3.133,-7.945 ; 1.78,-7.825 3.133,-7.825 ; 1.78,-7.705 3.133,-7.705 ; 1.78,-7.585 3.133,-7.585 ; 1.78,-7.465 3.133,-7.465 ; 1.78,-7.345 3.133,-7.345 ; 1.78,-7.225 3.133,-7.225 ; 1.78,-7.105 3.133,-7.105 ; 1.78,-5.645 3.133,-5.645 ; 1.78,-5.525 3.133,-5.525 ; 1.78,-5.405 3.133,-5.405 ; 1.78,-5.285 3.133,-5.285 ; 1.78,-5.165 3.133,-5.165 ; 1.78,-5.045 3.133,-5.045 ; 1.78,-4.925 3.133,-4.925 ; 1.78,-4.805 3.133,-4.805 ; 1.78,-4.685 3.133,-4.685 ; 1.78,-4.565 3.133,-4.565 ; 1.78,-3.105 3.133,-3.105 ; 1.78,-2.985 3.133,-2.985 ; 1.78,-2.865 3.133,-2.865 ; 1.78,-2.745 3.133,-2.745 ; 1.78,-2.625 3.133,-2.625 ; 1.78,-2.505 3.133,-2.505 ; 1.78,-2.385 3.133,-2.385 ; 1.78,-2.265 3.133,-2.265 ; 1.78,-2.145 3.133,-2.145 ; 1.78,-2.025 3.133,-2.025 ; 1.78,-0.565 3.133,-0.565 ; 1.78,-0.445 3.133,-0.445 ; 1.78,-0.325 3.133,-0.325 ; 1.78,-0.205 3.133,-0.205 ; 1.78,-0.085 3.133,-0.085 ; 1.78,0.035 3.133,0.035 ; 1.78,0.155 3.133,0.155 ; 1.78,0.275 3.133,0.275 ; 1.78,0.395 3.133,0.395 ; 1.78,0.515 3.133,0.515 ; 3.133,-10.795 3.133,-9.525 ; 3.133,-8.255 3.133,-6.985 ; 3.133,-5.715 3.133,-4.445 ; 3.133,-3.175 3.133,-1.905 ; 3.133,-0.635 3.133,0.635 ; -1.14,-12.58 -1.14,2.42 8.76,2.42 8.76,-12.58 -1.14,-12.58 ; 1.78,-10.795 5.84,-10.795 5.84,-9.525 1.78,-9.525 1.78,-10.795 ; 1.78,-8.255 1.78,-6.985 5.84,-6.985 5.84,-8.255 1.78,-8.255 ; 1.78,-5.715 1.78,-4.445 5.84,-4.445 5.84,-5.715 1.78,-5.715 ; 1.78,-3.175 1.78,-1.905 5.84,-1.905 5.84,-3.175 1.78,-3.175 ; 1.78,-0.635 5.84,-0.635 5.84,0.635 1.78,0.635 1.78,-0.635
F.CrtYd:
  lines w0.05: -1.35,-12.85 -1.35,2.7 8.95,2.7 8.95,-12.85 -1.35,-12.85
F.Fab:
  lines w0.1: 1.78,-10.725 3.133,-10.725 ; 1.78,-10.625 3.133,-10.625 ; 1.78,-10.525 3.133,-10.525 ; 1.78,-10.425 3.133,-10.425 ; 1.78,-10.325 3.133,-10.325 ; 1.78,-10.225 3.133,-10.225 ; 1.78,-10.125 3.133,-10.125 ; 1.78,-10.025 3.133,-10.025 ; 1.78,-9.925 3.133,-9.925 ; 1.78,-9.825 3.133,-9.825 ; 1.78,-9.725 3.133,-9.725 ; 1.78,-9.625 3.133,-9.625 ; 1.78,-8.185 3.133,-8.185 ; 1.78,-8.085 3.133,-8.085 ; 1.78,-7.985 3.133,-7.985 ; 1.78,-7.885 3.133,-7.885 ; 1.78,-7.785 3.133,-7.785 ; 1.78,-7.685 3.133,-7.685 ; 1.78,-7.585 3.133,-7.585 ; 1.78,-7.485 3.133,-7.485 ; 1.78,-7.385 3.133,-7.385 ; 1.78,-7.285 3.133,-7.285 ; 1.78,-7.185 3.133,-7.185 ; 1.78,-7.085 3.133,-7.085 ; 1.78,-5.645 3.133,-5.645 ; 1.78,-5.545 3.133,-5.545 ; 1.78,-5.445 3.133,-5.445 ; 1.78,-5.345 3.133,-5.345 ; 1.78,-5.245 3.133,-5.245 ; 1.78,-5.145 3.133,-5.145 ; 1.78,-5.045 3.133,-5.045 ; 1.78,-4.945 3.133,-4.945 ; 1.78,-4.845 3.133,-4.845 ; 1.78,-4.745 3.133,-4.745 ; 1.78,-4.645 3.133,-4.645 ; 1.78,-4.545 3.133,-4.545 ; 1.78,-3.105 3.133,-3.105 ; 1.78,-3.005 3.133,-3.005 ; 1.78,-2.905 3.133,-2.905 ; 1.78,-2.805 3.133,-2.805 ; 1.78,-2.705 3.133,-2.705 ; 1.78,-2.605 3.133,-2.605 ; 1.78,-2.505 3.133,-2.505 ; 1.78,-2.405 3.133,-2.405 ; 1.78,-2.305 3.133,-2.305 ; 1.78,-2.205 3.133,-2.205 ; 1.78,-2.105 3.133,-2.105 ; 1.78,-2.005 3.133,-2.005 ; 1.78,-0.565 3.133,-0.565 ; 1.78,-0.465 3.133,-0.465 ; 1.78,-0.365 3.133,-0.365 ; 1.78,-0.265 3.133,-0.265 ; 1.78,-0.165 3.133,-0.165 ; 1.78,-0.065 3.133,-0.065 ; 1.78,0.035 3.133,0.035 ; 1.78,0.135 3.133,0.135 ; 1.78,0.235 3.133,0.235 ; 1.78,0.335 3.133,0.335 ; 1.78,0.435 3.133,0.435 ; 1.78,0.535 3.133,0.535 ; 3.133,-10.795 3.133,-9.525 ; 3.133,-8.255 3.133,-6.985 ; 3.133,-5.715 3.133,-4.445 ; 3.133,-3.175 3.133,-1.905 ; 3.133,-0.635 3.133,0.635 ; -1.08,-12.52 -1.08,1.36 -0.08,2.36 8.7,2.36 8.7,-12.52 -1.08,-12.52 ; 1.78,-10.795 5.84,-10.795 5.84,-9.525 1.78,-9.525 1.78,-10.795 ; 1.78,-8.255 1.78,-6.985 5.84,-6.985 5.84,-8.255 1.78,-8.255 ; 1.78,-5.715 5.84,-5.715 5.84,-4.445 1.78,-4.445 1.78,-5.715 ; 1.78,-3.175 1.78,-1.905 5.84,-1.905 5.84,-3.175 1.78,-3.175 ; 1.78,-0.635 5.84,-0.635 5.84,0.635 1.78,0.635 1.78,-0.635
  text "on" at 4.7,1.111 h0.8
  text "'.Designator'" at 7.942,-8.317 h0.8

## SW_DIP_SPSTx06_Piano_10.8x16.8mm_W7.62mm_P2.54mm [mm]
pads (12):
  rect 1.6x1.6 hole 0.8: 1(0,0)
  rrect100% 1.6x1.6 hole 0.8: 2(0,-2.54) 3(0,-5.08) 4(0,-7.62) 5(0,-10.16) 6(0,-12.7) 7(7.62,-12.7) 8(7.62,-10.16) 9(7.62,-7.62) 10(7.62,-5.08) 11(7.62,-2.54) 12(7.62,0)
F.SilkS:
  lines w0.12: -1.89,0.967 -1.89,2.35 -0.507,2.35 ; -3.51,-13.51 -3.51,-11.89 -1.65,-11.89 -1.65,-13.51 -3.51,-13.51 ; -3.51,-10.97 -1.65,-10.97 -1.65,-9.35 -3.51,-9.35 -3.51,-10.97 ; -3.51,-8.43 -3.51,-6.81 -1.65,-6.81 -1.65,-8.43 -3.51,-8.43 ; -3.51,-5.89 -3.51,-4.27 -1.65,-4.27 -1.65,-5.89 -3.51,-5.89 ; -3.51,-3.35 -3.51,-1.73 -1.65,-1.73 -1.65,-3.35 -3.51,-3.35 ; -3.51,-0.81 -3.51,0.81 -1.65,0.81 -1.65,-0.81 -3.51,-0.81 ; -1.65,-14.811 -1.65,2.11 9.27,2.11 9.27,-14.811 -1.65,-14.811
F.CrtYd:
  lines w0.05: -3.65,-15.1 9.5,-15.1 9.5,2.4 -3.65,2.4 -3.65,-15.1
F.Fab:
  lines w0.1: -3.39,-13.45 -3.39,-11.95 -1.59,-11.95 -1.59,-13.45 -3.39,-13.45 ; -3.39,-10.91 -1.59,-10.91 -1.59,-9.41 -3.39,-9.41 -3.39,-10.91 ; -3.39,-8.37 -3.39,-6.87 -1.59,-6.87 -1.59,-8.37 -3.39,-8.37 ; -3.39,-5.83 -3.39,-4.33 -1.59,-4.33 -1.59,-5.83 -3.39,-5.83 ; -3.39,-3.29 -3.39,-1.79 -1.59,-1.79 -1.59,-3.29 -3.39,-3.29 ; -3.39,-0.75 -3.39,0.75 -1.59,0.75 -1.59,-0.75 -3.39,-0.75 ; -1.59,-14.75 -1.59,1.05 -0.59,2.05 9.21,2.05 9.21,-14.75 -1.59,-14.75
  text "'.Designator'" at 0.573,-7.022 h0.8

## SW_DIP_SPSTx06_Piano_CTS_Series194-6MSTN_W7.62mm_P2.54mm [mm]
pads (12):
  rect 1.6x1.6 hole 0.8: 1(0,0)
  rrect100% 1.6x1.6 hole 0.8: 2(0,-2.54) 3(0,-5.08) 4(0,-7.62) 5(0,-10.16) 6(0,-12.7) 7(7.62,-12.7) 8(7.62,-10.16) 9(7.62,-7.62) 10(7.62,-5.08) 11(7.62,-2.54) 12(7.62,0)
F.SilkS:
  lines w0.12: -1.38,1.277 -1.38,2.66 0.004,2.66 ; -2.34,-13.52 -1.14,-13.52 -1.14,-11.88 -2.34,-11.88 -2.34,-13.52 ; -2.34,-10.98 -1.14,-10.98 -1.14,-9.34 -2.34,-9.34 -2.34,-10.98 ; -2.34,-8.441 -2.34,-6.801 -1.14,-6.801 -1.14,-8.441 -2.34,-8.441 ; -2.34,-5.9 -2.34,-4.261 -1.14,-4.261 -1.14,-5.9 -2.34,-5.9 ; -2.34,-3.361 -1.14,-3.361 -1.14,-1.72 -2.34,-1.72 -2.34,-3.361 ; -2.34,-0.82 -1.14,-0.82 -1.14,0.82 -2.34,0.82 -2.34,-0.82 ; -1.14,-15.12 8.76,-15.12 8.76,2.42 -1.14,2.42 -1.14,-15.12
F.CrtYd:
  lines w0.05: -2.5,-15.4 -2.5,2.7 8.95,2.7 8.95,-15.4 -2.5,-15.4
F.Fab:
  lines w0.1: -2.22,-13.46 -1.08,-13.46 -1.08,-11.94 -2.22,-11.94 -2.22,-13.46 ; -2.22,-10.92 -1.08,-10.92 -1.08,-9.4 -2.22,-9.4 -2.22,-10.92 ; -2.22,-8.38 -1.08,-8.38 -1.08,-6.86 -2.22,-6.86 -2.22,-8.38 ; -2.22,-5.84 -1.08,-5.84 -1.08,-4.32 -2.22,-4.32 -2.22,-5.84 ; -2.22,-3.3 -1.08,-3.3 -1.08,-1.78 -2.22,-1.78 -2.22,-3.3 ; -2.22,-0.76 -1.08,-0.76 -1.08,0.76 -2.22,0.76 -2.22,-0.76 ; -1.08,-15.06 8.7,-15.06 8.7,2.36 -0.08,2.36 -1.08,1.36 -1.08,-15.06
  text "'.Designator'" at 0.573,-7.022 h0.8

## SW_DIP_SPSTx06_Slide_6.7x16.8mm_W7.62mm_P2.54mm_LowProfile [mm]
pads (12):
  rect 1.6x1.6 hole 0.8: 1(0,0)
  rrect100% 1.6x1.6 hole 0.8: 2(0,-2.54) 3(0,-5.08) 4(0,-7.62) 5(0,-10.16) 6(0,-12.7) 7(7.62,-12.7) 8(7.62,-10.16) 9(7.62,-7.62) 10(7.62,-5.08) 11(7.62,-2.54) 12(7.62,0)
F.SilkS:
  lines w0.12: 0.16,1.04 0.16,2.35 1.543,2.35 ; 0.4,-13.69 0.4,-14.811 7.221,-14.811 7.221,-13.69 ; 0.4,-11.71 0.4,-11.15 ; 0.4,-9.17 0.4,-8.61 ; 0.4,-6.631 0.4,-6.07 ; 0.4,-4.091 0.4,-3.53 ; 0.4,-1.551 0.4,-1.04 ; 0.4,1.04 0.4,2.11 7.221,2.11 7.221,0.99 ; 2,-13.265 3.207,-13.265 ; 2,-13.145 3.207,-13.145 ; 2,-13.025 3.207,-13.025 ; 2,-12.905 3.207,-12.905 ; 2,-12.785 3.207,-12.785 ; 2,-12.665 3.207,-12.665 ; 2,-12.545 3.207,-12.545 ; 2,-12.425 3.207,-12.425 ; 2,-12.305 3.207,-12.305 ; 2,-12.185 3.207,-12.185 ; 2,-10.725 3.207,-10.725 ; 2,-10.605 3.207,-10.605 ; 2,-10.485 3.207,-10.485 ; 2,-10.365 3.207,-10.365 ; 2,-10.245 3.207,-10.245 ; 2,-10.125 3.207,-10.125 ; 2,-10.005 3.207,-10.005 ; 2,-9.885 3.207,-9.885 ; 2,-9.765 3.207,-9.765 ; 2,-9.645 3.207,-9.645 ; 2,-8.185 3.207,-8.185 ; 2,-8.065 3.207,-8.065 ; 2,-7.945 3.207,-7.945 ; 2,-7.825 3.207,-7.825 ; 2,-7.705 3.207,-7.705 ; 2,-7.585 3.207,-7.585 ; 2,-7.465 3.207,-7.465 ; 2,-7.345 3.207,-7.345 ; 2,-7.225 3.207,-7.225 ; 2,-7.105 3.207,-7.105 ; 2,-5.645 3.207,-5.645 ; 2,-5.525 3.207,-5.525 ; 2,-5.405 3.207,-5.405 ; 2,-5.285 3.207,-5.285 ; 2,-5.165 3.207,-5.165 ; 2,-5.045 3.207,-5.045 ; 2,-4.925 3.207,-4.925 ; 2,-4.805 3.207,-4.805 ; 2,-4.685 3.207,-4.685 ; 2,-4.565 3.207,-4.565 ; 2,-3.105 3.207,-3.105 ; 2,-2.985 3.207,-2.985 ; 2,-2.865 3.207,-2.865 ; 2,-2.745 3.207,-2.745 ; 2,-2.625 3.207,-2.625 ; 2,-2.505 3.207,-2.505 ; 2,-2.385 3.207,-2.385 ; 2,-2.265 3.207,-2.265 ; 2,-2.145 3.207,-2.145 ; 2,-2.025 3.207,-2.025 ; 2,-0.565 3.207,-0.565 ; 2,-0.445 3.207,-0.445 ; 2,-0.325 3.207,-0.325 ; 2,-0.205 3.207,-0.205 ; 2,-0.085 3.207,-0.085 ; 2,0.035 3.207,0.035 ; 2,0.155 3.207,0.155 ; 2,0.275 3.207,0.275 ; 2,0.395 3.207,0.395 ; 2,0.515 3.207,0.515 ; 3.207,-13.335 3.207,-12.065 ; 3.207,-10.795 3.207,-9.525 ; 3.207,-8.255 3.207,-6.985 ; 3.207,-5.715 3.207,-4.445 ; 3.207,-3.175 3.207,-1.905 ; 3.207,-0.635 3.207,0.635 ; 7.221,-11.71 7.221,-11.15 ; 7.221,-9.17 7.221,-8.61 ; 7.221,-6.631 7.221,-6.07 ; 7.221,-4.091 7.221,-3.53 ; 7.221,-1.551 7.221,-0.99 ; 2,-13.335 2,-12.065 5.62,-12.065 5.62,-13.335 2,-13.335 ; 2,-10.795 2,-9.525 5.62,-9.525 5.62,-10.795 2,-10.795 ; 2,-8.255 2,-6.985 5.62,-6.985 5.62,-8.255 2,-8.255 ; 2,-5.715 2,-4.445 5.62,-4.445 5.62,-5.715 2,-5.715 ; 2,-3.175 5.62,-3.175 5.62,-1.905 2,-1.905 2,-3.175 ; 2,-0.635 5.62,-0.635 5.62,0.635 2,0.635 2,-0.635
F.CrtYd:
  lines w0.05: -1.1,-15.1 8.7,-15.1 8.7,2.4 -1.1,2.4 -1.1,-15.1
F.Fab:
  lines w0.1: 2,-13.265 3.207,-13.265 ; 2,-13.165 3.207,-13.165 ; 2,-13.065 3.207,-13.065 ; 2,-12.965 3.207,-12.965 ; 2,-12.865 3.207,-12.865 ; 2,-12.765 3.207,-12.765 ; 2,-12.665 3.207,-12.665 ; 2,-12.565 3.207,-12.565 ; 2,-12.465 3.207,-12.465 ; 2,-12.365 3.207,-12.365 ; 2,-12.265 3.207,-12.265 ; 2,-12.165 3.207,-12.165 ; 2,-10.725 3.207,-10.725 ; 2,-10.625 3.207,-10.625 ; 2,-10.525 3.207,-10.525 ; 2,-10.425 3.207,-10.425 ; 2,-10.325 3.207,-10.325 ; 2,-10.225 3.207,-10.225 ; 2,-10.125 3.207,-10.125 ; 2,-10.025 3.207,-10.025 ; 2,-9.925 3.207,-9.925 ; 2,-9.825 3.207,-9.825 ; 2,-9.725 3.207,-9.725 ; 2,-9.625 3.207,-9.625 ; 2,-8.185 3.207,-8.185 ; 2,-8.085 3.207,-8.085 ; 2,-7.985 3.207,-7.985 ; 2,-7.885 3.207,-7.885 ; 2,-7.785 3.207,-7.785 ; 2,-7.685 3.207,-7.685 ; 2,-7.585 3.207,-7.585 ; 2,-7.485 3.207,-7.485 ; 2,-7.385 3.207,-7.385 ; 2,-7.285 3.207,-7.285 ; 2,-7.185 3.207,-7.185 ; 2,-7.085 3.207,-7.085 ; 2,-5.645 3.207,-5.645 ; 2,-5.545 3.207,-5.545 ; 2,-5.445 3.207,-5.445 ; 2,-5.345 3.207,-5.345 ; 2,-5.245 3.207,-5.245 ; 2,-5.145 3.207,-5.145 ; 2,-5.045 3.207,-5.045 ; 2,-4.945 3.207,-4.945 ; 2,-4.845 3.207,-4.845 ; 2,-4.745 3.207,-4.745 ; 2,-4.645 3.207,-4.645 ; 2,-4.545 3.207,-4.545 ; 2,-3.105 3.207,-3.105 ; 2,-3.005 3.207,-3.005 ; 2,-2.905 3.207,-2.905 ; 2,-2.805 3.207,-2.805 ; 2,-2.705 3.207,-2.705 ; 2,-2.605 3.207,-2.605 ; 2,-2.505 3.207,-2.505 ; 2,-2.405 3.207,-2.405 ; 2,-2.305 3.207,-2.305 ; 2,-2.205 3.207,-2.205 ; 2,-2.105 3.207,-2.105 ; 2,-2.005 3.207,-2.005 ; 2,-0.565 3.207,-0.565 ; 2,-0.465 3.207,-0.465 ; 2,-0.365 3.207,-0.365 ; 2,-0.265 3.207,-0.265 ; 2,-0.165 3.207,-0.165 ; 2,-0.065 3.207,-0.065 ; 2,0.035 3.207,0.035 ; 2,0.135 3.207,0.135 ; 2,0.235 3.207,0.235 ; 2,0.335 3.207,0.335 ; 2,0.435 3.207,0.435 ; 2,0.535 3.207,0.535 ; 3.207,-13.335 3.207,-12.065 ; 3.207,-10.795 3.207,-9.525 ; 3.207,-8.255 3.207,-6.985 ; 3.207,-5.715 3.207,-4.445 ; 3.207,-3.175 3.207,-1.905 ; 3.207,-0.635 3.207,0.635 ; 0.46,-14.75 0.46,1.05 1.46,2.05 7.16,2.05 7.16,-14.75 0.46,-14.75 ; 2,-13.335 5.62,-13.335 5.62,-12.065 2,-12.065 2,-13.335 ; 2,-10.795 2,-9.525 5.62,-9.525 5.62,-10.795 2,-10.795 ; 2,-8.255 2,-6.985 5.62,-6.985 5.62,-8.255 2,-8.255 ; 2,-5.715 2,-4.445 5.62,-4.445 5.62,-5.715 2,-5.715 ; 2,-3.175 5.62,-3.175 5.62,-1.905 2,-1.905 2,-3.175 ; 2,-0.635 2,0.635 5.62,0.635 5.62,-0.635 2,-0.635
  text "'.Designator'" at 7.062,-9.587 h0.8
  text "on" at 3.82,0.956 h0.8

## SW_DIP_SPSTx06_Slide_9.78x17.42mm_W7.62mm_P2.54mm [mm]
pads (12):
  rect 1.6x1.6 hole 0.8: 1(0,0)
  rrect100% 1.6x1.6 hole 0.8: 2(0,-2.54) 3(0,-5.08) 4(0,-7.62) 5(0,-10.16) 6(0,-12.7) 7(7.62,-12.7) 8(7.62,-10.16) 9(7.62,-7.62) 10(7.62,-5.08) 11(7.62,-2.54) 12(7.62,0)
F.SilkS:
  lines w0.12: -1.38,1.277 -1.38,2.66 0.004,2.66 ; 1.78,-13.265 3.133,-13.265 ; 1.78,-13.145 3.133,-13.145 ; 1.78,-13.025 3.133,-13.025 ; 1.78,-12.905 3.133,-12.905 ; 1.78,-12.785 3.133,-12.785 ; 1.78,-12.665 3.133,-12.665 ; 1.78,-12.545 3.133,-12.545 ; 1.78,-12.425 3.133,-12.425 ; 1.78,-12.305 3.133,-12.305 ; 1.78,-12.185 3.133,-12.185 ; 1.78,-10.725 3.133,-10.725 ; 1.78,-10.605 3.133,-10.605 ; 1.78,-10.485 3.133,-10.485 ; 1.78,-10.365 3.133,-10.365 ; 1.78,-10.245 3.133,-10.245 ; 1.78,-10.125 3.133,-10.125 ; 1.78,-10.005 3.133,-10.005 ; 1.78,-9.885 3.133,-9.885 ; 1.78,-9.765 3.133,-9.765 ; 1.78,-9.645 3.133,-9.645 ; 1.78,-8.185 3.133,-8.185 ; 1.78,-8.065 3.133,-8.065 ; 1.78,-7.945 3.133,-7.945 ; 1.78,-7.825 3.133,-7.825 ; 1.78,-7.705 3.133,-7.705 ; 1.78,-7.585 3.133,-7.585 ; 1.78,-7.465 3.133,-7.465 ; 1.78,-7.345 3.133,-7.345 ; 1.78,-7.225 3.133,-7.225 ; 1.78,-7.105 3.133,-7.105 ; 1.78,-5.645 3.133,-5.645 ; 1.78,-5.525 3.133,-5.525 ; 1.78,-5.405 3.133,-5.405 ; 1.78,-5.285 3.133,-5.285 ; 1.78,-5.165 3.133,-5.165 ; 1.78,-5.045 3.133,-5.045 ; 1.78,-4.925 3.133,-4.925 ; 1.78,-4.805 3.133,-4.805 ; 1.78,-4.685 3.133,-4.685 ; 1.78,-4.565 3.133,-4.565 ; 1.78,-3.105 3.133,-3.105 ; 1.78,-2.985 3.133,-2.985 ; 1.78,-2.865 3.133,-2.865 ; 1.78,-2.745 3.133,-2.745 ; 1.78,-2.625 3.133,-2.625 ; 1.78,-2.505 3.133,-2.505 ; 1.78,-2.385 3.133,-2.385 ; 1.78,-2.265 3.133,-2.265 ; 1.78,-2.145 3.133,-2.145 ; 1.78,-2.025 3.133,-2.025 ; 1.78,-0.565 3.133,-0.565 ; 1.78,-0.445 3.133,-0.445 ; 1.78,-0.325 3.133,-0.325 ; 1.78,-0.205 3.133,-0.205 ; 1.78,-0.085 3.133,-0.085 ; 1.78,0.035 3.133,0.035 ; 1.78,0.155 3.133,0.155 ; 1.78,0.275 3.133,0.275 ; 1.78,0.395 3.133,0.395 ; 1.78,0.515 3.133,0.515 ; 3.133,-13.335 3.133,-12.065 ; 3.133,-10.795 3.133,-9.525 ; 3.133,-8.255 3.133,-6.985 ; 3.133,-5.715 3.133,-4.445 ; 3.133,-3.175 3.133,-1.905 ; 3.133,-0.635 3.133,0.635 ; -1.14,-15.12 -1.14,2.42 8.76,2.42 8.76,-15.12 -1.14,-15.12 ; 1.78,-13.335 5.84,-13.335 5.84,-12.065 1.78,-12.065 1.78,-13.335 ; 1.78,-10.795 1.78,-9.525 5.84,-9.525 5.84,-10.795 1.78,-10.795 ; 1.78,-8.255 5.84,-8.255 5.84,-6.985 1.78,-6.985 1.78,-8.255 ; 1.78,-5.715 1.78,-4.445 5.84,-4.445 5.84,-5.715 1.78,-5.715 ; 1.78,-3.175 5.84,-3.175 5.84,-1.905 1.78,-1.905 1.78,-3.175 ; 1.78,-0.635 5.84,-0.635 5.84,0.635 1.78,0.635 1.78,-0.635
F.CrtYd:
  lines w0.05: -1.35,-15.4 -1.35,2.7 8.95,2.7 8.95,-15.4 -1.35,-15.4
F.Fab:
  lines w0.1: 1.78,-13.265 3.133,-13.265 ; 1.78,-13.165 3.133,-13.165 ; 1.78,-13.065 3.133,-13.065 ; 1.78,-12.965 3.133,-12.965 ; 1.78,-12.865 3.133,-12.865 ; 1.78,-12.765 3.133,-12.765 ; 1.78,-12.665 3.133,-12.665 ; 1.78,-12.565 3.133,-12.565 ; 1.78,-12.465 3.133,-12.465 ; 1.78,-12.365 3.133,-12.365 ; 1.78,-12.265 3.133,-12.265 ; 1.78,-12.165 3.133,-12.165 ; 1.78,-10.725 3.133,-10.725 ; 1.78,-10.625 3.133,-10.625 ; 1.78,-10.525 3.133,-10.525 ; 1.78,-10.425 3.133,-10.425 ; 1.78,-10.325 3.133,-10.325 ; 1.78,-10.225 3.133,-10.225 ; 1.78,-10.125 3.133,-10.125 ; 1.78,-10.025 3.133,-10.025 ; 1.78,-9.925 3.133,-9.925 ; 1.78,-9.825 3.133,-9.825 ; 1.78,-9.725 3.133,-9.725 ; 1.78,-9.625 3.133,-9.625 ; 1.78,-8.185 3.133,-8.185 ; 1.78,-8.085 3.133,-8.085 ; 1.78,-7.985 3.133,-7.985 ; 1.78,-7.885 3.133,-7.885 ; 1.78,-7.785 3.133,-7.785 ; 1.78,-7.685 3.133,-7.685 ; 1.78,-7.585 3.133,-7.585 ; 1.78,-7.485 3.133,-7.485 ; 1.78,-7.385 3.133,-7.385 ; 1.78,-7.285 3.133,-7.285 ; 1.78,-7.185 3.133,-7.185 ; 1.78,-7.085 3.133,-7.085 ; 1.78,-5.645 3.133,-5.645 ; 1.78,-5.545 3.133,-5.545 ; 1.78,-5.445 3.133,-5.445 ; 1.78,-5.345 3.133,-5.345 ; 1.78,-5.245 3.133,-5.245 ; 1.78,-5.145 3.133,-5.145 ; 1.78,-5.045 3.133,-5.045 ; 1.78,-4.945 3.133,-4.945 ; 1.78,-4.845 3.133,-4.845 ; 1.78,-4.745 3.133,-4.745 ; 1.78,-4.645 3.133,-4.645 ; 1.78,-4.545 3.133,-4.545 ; 1.78,-3.105 3.133,-3.105 ; 1.78,-3.005 3.133,-3.005 ; 1.78,-2.905 3.133,-2.905 ; 1.78,-2.805 3.133,-2.805 ; 1.78,-2.705 3.133,-2.705 ; 1.78,-2.605 3.133,-2.605 ; 1.78,-2.505 3.133,-2.505 ; 1.78,-2.405 3.133,-2.405 ; 1.78,-2.305 3.133,-2.305 ; 1.78,-2.205 3.133,-2.205 ; 1.78,-2.105 3.133,-2.105 ; 1.78,-2.005 3.133,-2.005 ; 1.78,-0.565 3.133,-0.565 ; 1.78,-0.465 3.133,-0.465 ; 1.78,-0.365 3.133,-0.365 ; 1.78,-0.265 3.133,-0.265 ; 1.78,-0.165 3.133,-0.165 ; 1.78,-0.065 3.133,-0.065 ; 1.78,0.035 3.133,0.035 ; 1.78,0.135 3.133,0.135 ; 1.78,0.235 3.133,0.235 ; 1.78,0.335 3.133,0.335 ; 1.78,0.435 3.133,0.435 ; 1.78,0.535 3.133,0.535 ; 3.133,-13.335 3.133,-12.065 ; 3.133,-10.795 3.133,-9.525 ; 3.133,-8.255 3.133,-6.985 ; 3.133,-5.715 3.133,-4.445 ; 3.133,-3.175 3.133,-1.905 ; 3.133,-0.635 3.133,0.635 ; -1.08,-15.06 -1.08,1.36 -0.08,2.36 8.7,2.36 8.7,-15.06 -1.08,-15.06 ; 1.78,-13.335 5.84,-13.335 5.84,-12.065 1.78,-12.065 1.78,-13.335 ; 1.78,-10.795 5.84,-10.795 5.84,-9.525 1.78,-9.525 1.78,-10.795 ; 1.78,-8.255 5.84,-8.255 5.84,-6.985 1.78,-6.985 1.78,-8.255 ; 1.78,-5.715 1.78,-4.445 5.84,-4.445 5.84,-5.715 1.78,-5.715 ; 1.78,-3.175 1.78,-1.905 5.84,-1.905 5.84,-3.175 1.78,-3.175 ; 1.78,-0.635 5.84,-0.635 5.84,0.635 1.78,0.635 1.78,-0.635
  text "'.Designator'" at 7.942,-9.587 h0.8
  text "on" at 4.7,1.111 h0.8

## SW_DIP_SPSTx07_Piano_10.8x19.34mm_W7.62mm_P2.54mm [mm]
pads (14):
  rect 1.6x1.6 hole 0.8: 1(0,0)
  rrect100% 1.6x1.6 hole 0.8: 2(0,-2.54) 3(0,-5.08) 4(0,-7.62) 5(0,-10.16) 6(0,-12.7) 7(0,-15.24) 8(7.62,-15.24) 9(7.62,-12.7) 10(7.62,-10.16) 11(7.62,-7.62) 12(7.62,-5.08) 13(7.62,-2.54) 14(7.62,0)
F.SilkS:
  lines w0.12: -1.89,0.967 -1.89,2.35 -0.507,2.35 ; -3.51,-16.05 -3.51,-14.43 -1.65,-14.43 -1.65,-16.05 -3.51,-16.05 ; -3.51,-13.51 -3.51,-11.89 -1.65,-11.89 -1.65,-13.51 -3.51,-13.51 ; -3.51,-10.97 -3.51,-9.35 -1.65,-9.35 -1.65,-10.97 -3.51,-10.97 ; -3.51,-8.43 -1.65,-8.43 -1.65,-6.81 -3.51,-6.81 -3.51,-8.43 ; -3.51,-5.89 -3.51,-4.27 -1.65,-4.27 -1.65,-5.89 -3.51,-5.89 ; -3.51,-3.35 -1.65,-3.35 -1.65,-1.73 -3.51,-1.73 -3.51,-3.35 ; -3.51,-0.81 -3.51,0.81 -1.65,0.81 -1.65,-0.81 -3.51,-0.81 ; -1.65,-17.35 -1.65,2.11 9.27,2.11 9.27,-17.35 -1.65,-17.35
F.CrtYd:
  lines w0.05: -3.65,-17.6 -3.65,2.4 9.5,2.4 9.5,-17.6 -3.65,-17.6
F.Fab:
  lines w0.1: -3.39,-15.99 -1.59,-15.99 -1.59,-14.49 -3.39,-14.49 -3.39,-15.99 ; -3.39,-13.45 -1.59,-13.45 -1.59,-11.95 -3.39,-11.95 -3.39,-13.45 ; -3.39,-10.91 -1.59,-10.91 -1.59,-9.41 -3.39,-9.41 -3.39,-10.91 ; -3.39,-8.37 -1.59,-8.37 -1.59,-6.87 -3.39,-6.87 -3.39,-8.37 ; -3.39,-5.83 -3.39,-4.33 -1.59,-4.33 -1.59,-5.83 -3.39,-5.83 ; -3.39,-3.29 -3.39,-1.79 -1.59,-1.79 -1.59,-3.29 -3.39,-3.29 ; -3.39,-0.75 -3.39,0.75 -1.59,0.75 -1.59,-0.75 -3.39,-0.75 ; -1.59,-17.29 9.21,-17.29 9.21,2.05 -0.59,2.05 -1.59,1.05 -1.59,-17.29
  text "'.Designator'" at 0.573,-8.292 h0.8

## SW_DIP_SPSTx07_Piano_CTS_Series194-7MSTN_W7.62mm_P2.54mm [mm]
pads (14):
  rect 1.6x1.6 hole 0.8: 1(0,0)
  rrect100% 1.6x1.6 hole 0.8: 2(0,-2.54) 3(0,-5.08) 4(0,-7.62) 5(0,-10.16) 6(0,-12.7) 7(0,-15.24) 8(7.62,-15.24) 9(7.62,-12.7) 10(7.62,-10.16) 11(7.62,-7.62) 12(7.62,-5.08) 13(7.62,-2.54) 14(7.62,0)
F.SilkS:
  lines w0.12: -1.38,1.277 -1.38,2.66 0.004,2.66 ; -2.34,-16.06 -1.14,-16.06 -1.14,-14.42 -2.34,-14.42 -2.34,-16.06 ; -2.34,-13.52 -2.34,-11.88 -1.14,-11.88 -1.14,-13.52 -2.34,-13.52 ; -2.34,-10.98 -1.14,-10.98 -1.14,-9.34 -2.34,-9.34 -2.34,-10.98 ; -2.34,-8.441 -1.14,-8.441 -1.14,-6.801 -2.34,-6.801 -2.34,-8.441 ; -2.34,-5.9 -2.34,-4.261 -1.14,-4.261 -1.14,-5.9 -2.34,-5.9 ; -2.34,-3.361 -1.14,-3.361 -1.14,-1.72 -2.34,-1.72 -2.34,-3.361 ; -2.34,-0.82 -1.14,-0.82 -1.14,0.82 -2.34,0.82 -2.34,-0.82 ; -1.14,-17.661 8.76,-17.661 8.76,2.42 -1.14,2.42 -1.14,-17.661
F.CrtYd:
  lines w0.05: -2.5,-17.95 8.95,-17.95 8.95,2.7 -2.5,2.7 -2.5,-17.95
F.Fab:
  lines w0.1: -2.22,-16 -2.22,-14.48 -1.08,-14.48 -1.08,-16 -2.22,-16 ; -2.22,-13.46 -2.22,-11.94 -1.08,-11.94 -1.08,-13.46 -2.22,-13.46 ; -2.22,-10.92 -2.22,-9.4 -1.08,-9.4 -1.08,-10.92 -2.22,-10.92 ; -2.22,-8.38 -1.08,-8.38 -1.08,-6.86 -2.22,-6.86 -2.22,-8.38 ; -2.22,-5.84 -1.08,-5.84 -1.08,-4.32 -2.22,-4.32 -2.22,-5.84 ; -2.22,-3.3 -1.08,-3.3 -1.08,-1.78 -2.22,-1.78 -2.22,-3.3 ; -2.22,-0.76 -2.22,0.76 -1.08,0.76 -1.08,-0.76 -2.22,-0.76 ; -1.08,-17.6 8.7,-17.6 8.7,2.36 -0.08,2.36 -1.08,1.36 -1.08,-17.6
  text "'.Designator'" at 0.573,-8.292 h0.8